# EAGLE library part LPCXPRESSO_NO_PAD (library LPCXpresso)
NXP LPCXpresso by Embedded Artists LPCXpresso is a new, low-cost development platform available from NXP. It supports NXP's ARM-based LPC microcontrollers. The platform is comprised of a simplified Eclipse-based IDE and low-cost target boards which include an attached JTAG debugger. http://ics.nxp.com/lpcxpresso/ NOTE: This version does NOT include the 37-pin pads on the top of the board
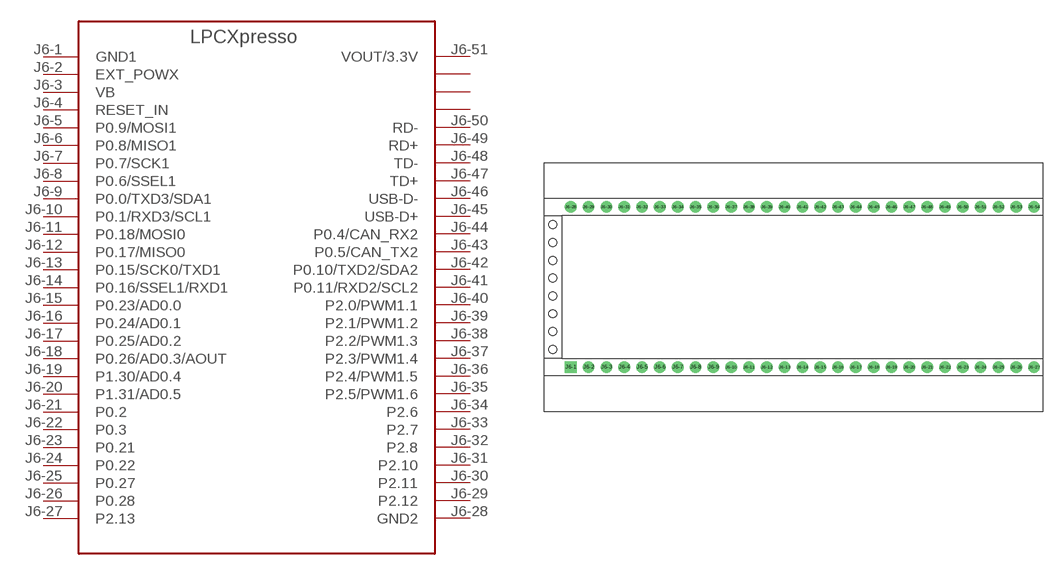
[diagram p1: symbol with the pads of LPCXPRESSO_NO_PAD; footprint LPCXPRESSO_NO_PAD]

Designator prefix -

## LPCXPRESSO_NO_PAD_1768_REVB  [LPCXPRESSO_NO_PAD]
J6-1  GND1
J6-2  EXT_POWX
J6-3  VB
J6-4  RESET_IN
J6-5  P0.9/MOSI1
J6-6  P0.8/MISO1
J6-7  P0.7/SCK1
J6-8  P0.6/SSEL1
J6-9  P0.0/TXD3/SDA1
J6-10  P0.1/RXD3/SCL1
J6-11  P0.18/MOSI0
J6-12  P0.17/MISO0
J6-13  P0.15/SCK0/TXD1
J6-14  P0.16/SSEL1/RXD1
J6-15  P0.23/AD0.0
J6-16  P0.24/AD0.1
J6-17  P0.25/AD0.2
J6-18  P0.26/AD0.3/AOUT
J6-19  P1.30/AD0.4
J6-20  P1.31/AD0.5
J6-21  P0.2
J6-22  P0.3
J6-23  P0.21
J6-24  P0.22
J6-25  P0.27
J6-26  P0.28
J6-27  P2.13
J6-28  GND2
J6-29  P2.12
J6-30  P2.11
J6-31  P2.10
J6-32  P2.8
J6-33  P2.7
J6-34  P2.6
J6-35  P2.5/PWM1.6
J6-36  P2.4/PWM1.5
J6-37  P2.3/PWM1.4
J6-38  P2.2/PWM1.3
J6-39  P2.1/PWM1.2
J6-40  P2.0/PWM1.1
J6-41  P0.11/RXD2/SCL2
J6-42  P0.10/TXD2/SDA2
J6-43  P0.5/CAN_TX2
J6-44  P0.4/CAN_RX2
J6-45  USB-D+
J6-46  USB-D-
J6-47  TD+
J6-48  TD-
J6-49  RD+
J6-50  RD-
J6-51  VOUT/3.3V
J6-52  P$24  nc
J6-53  P$25  nc
J6-54  P$26  nc

## Footprint LPCXPRESSO_NO_PAD (pad centres in mm)
drill 0.8 pad 1.676 square: J6-1 -33.02,-11.43
drill 0.8 pad 1.676: J6-2 -30.48,-11.43; J6-3 -27.94,-11.43; J6-4 -25.4,-11.43; J6-5 -22.86,-11.43; J6-6 -20.32,-11.43; J6-7 -17.78,-11.43; J6-8 -15.24,-11.43; J6-9 -12.7,-11.43; J6-10 -10.16,-11.43; J6-11 -7.62,-11.43; J6-12 -5.08,-11.43; J6-13 -2.54,-11.43; J6-14 0,-11.43; J6-15 2.54,-11.43; J6-16 5.08,-11.43; J6-17 7.62,-11.43; J6-18 10.16,-11.43; J6-19 12.7,-11.43; J6-20 15.24,-11.43; J6-21 17.78,-11.43; J6-22 20.32,-11.43; J6-23 22.86,-11.43; J6-24 25.4,-11.43; J6-25 27.94,-11.43; J6-26 30.48,-11.43; J6-27 33.02,-11.43; J6-28 -33.02,11.43; J6-29 -30.48,11.43; J6-30 -27.94,11.43; J6-31 -25.4,11.43; J6-32 -22.86,11.43; J6-33 -20.32,11.43; J6-34 -17.78,11.43; J6-35 -15.24,11.43; J6-36 -12.7,11.43; J6-37 -10.16,11.43; J6-38 -7.62,11.43; J6-39 -5.08,11.43; J6-40 -2.54,11.43; J6-41 0,11.43; J6-42 2.54,11.43; J6-43 5.08,11.43; J6-44 7.62,11.43; J6-45 10.16,11.43; J6-46 12.7,11.43; J6-47 15.24,11.43; J6-48 17.78,11.43; J6-49 20.32,11.43; J6-50 22.86,11.43; J6-51 25.4,11.43; J6-52 27.94,11.43; J6-53 30.48,11.43; J6-54 33.02,11.43